# EAGLE library part 690367290876 (library Board-to-Board (rev18a))
WR-MM Female SMT Connector with Latch and with Polarization, 8 Pins=>Code : Con_BTB_MM_Female_SMT_690367290876 <http://katalog.we-online.de/media/images/v2/WR-MiMo_69036729xx76.jpg> Details see: http://katalog.we-online.de/en/em/6903_6729_xx_76 Created 2014-06-04, Karrer Zheng 2014 (C) Würth Elektronik
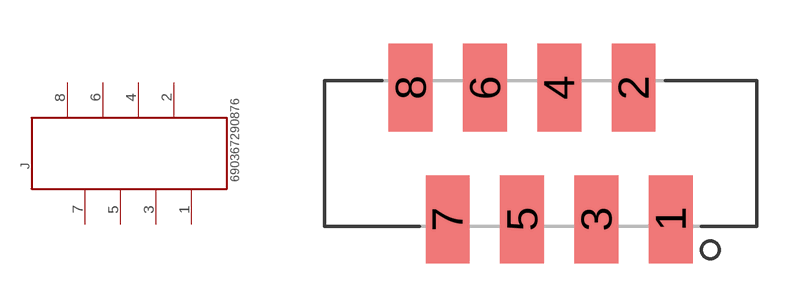
[diagram p361: symbol with the pads of 690367290876; footprint 690367290876]

Designator prefix J

## 690367290876  [690367290876]
1  1  pas
2  2  pas
3  3  pas
4  4  pas
5  5  pas
6  6  pas
7  7  pas
8  8  pas

## Footprint 690367290876 (pad centres in mm)
WR-MM Female SMT Connector with Latch and with Polarization, 8 pins
smd 1.5 x 3: 1 4.445,-2.25; 2 3.175,2.25; 3 1.905,-2.25; 4 0.635,2.25; 5 -0.635,-2.25; 6 -1.905,2.25; 7 -3.175,-2.25; 8 -4.445,2.25